# EAGLE library part TX14D12VM1CPC (library work)
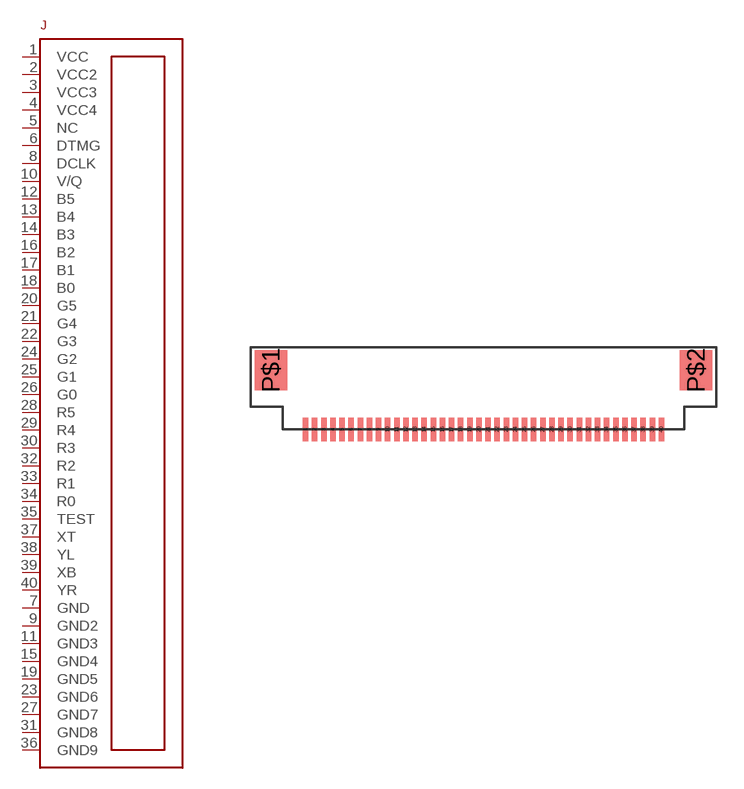
[diagram p40: symbol with the pads of 40-FPC; footprint 40-FPC]

Designator prefix J

## TX14D12VM1CPC  [40-FPC]
1  VCC
2  VCC2
3  VCC3
4  VCC4
5  NC
6  DTMG
7  GND
8  DCLK
9  GND2
10  V/Q
11  GND3
12  B5
13  B4
14  B3
15  GND4
16  B2
17  B1
18  B0
19  GND5
20  G5
21  G4
22  G3
23  GND6
24  G2
25  G1
26  G0
27  GND7
28  R5
29  R4
30  R3
31  GND8
32  R2
33  R1
34  R0
35  TEST
36  GND9
37  XT
38  YL
39  XB
40  YR

## Footprint 40-FPC (pad centres in mm)
smd 0.3 x 1.3: 1 -9.75,0; 2 -9.25,0; 3 -8.75,0; 4 -8.25,0; 5 -7.75,0; 6 -7.25,0; 7 -6.75,0; 8 -6.25,0; 9 -5.75,0; 10 -5.25,0; 11 -4.75,0; 12 -4.25,0; 13 -3.75,0; 14 -3.25,0; 15 -2.75,0; 16 -2.25,0; 17 -1.75,0; 18 -1.25,0; 19 -0.75,0; 20 -0.25,0; 21 0.25,0; 22 0.75,0; 23 1.25,0; 24 1.75,0; 25 2.25,0; 26 2.75,0; 27 3.25,0; 28 3.75,0; 29 4.25,0; 30 4.75,0; 31 5.25,0; 32 5.75,0; 33 6.25,0; 34 6.75,0; 35 7.25,0; 36 7.75,0; 37 8.25,0; 38 8.75,0; 39 9.25,0; 40 9.75,0
smd 1.8 x 2.2: P$1 -11.65,3.25; P$2 11.65,3.25